# Altium footprint library 10103594_micro_USB.PcbLib: 1 footprints
Each footprint in its own frame and in the unit in brackets; x right, y up, seen from the top. Pads: shape width x height; smd on the part's side, far side on the other; paste and mask are expansions set on the pad; w line width, h text height; cw(c..) or ccw(c..) is an arc to the next point about the centre after c.
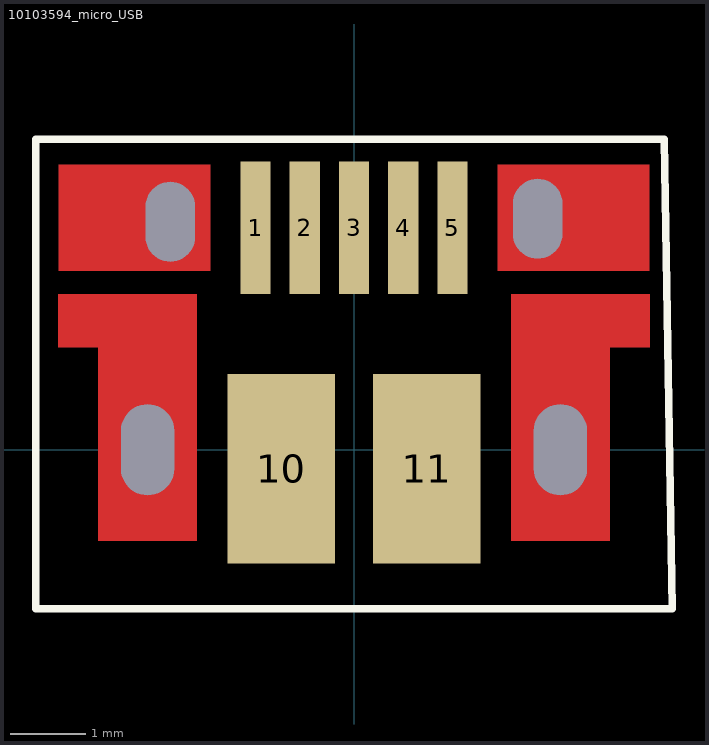
[diagram p0: the footprint, top view; thin cyan lines are the x and y axes]

## 10103594_micro_USB [mm]
height 2.99
pads (11):
  rect 0.4x1.75 smd: 1(-1.3,2.93) 2(-0.65,2.93) 3(0,2.93) 4(0.65,2.93) 5(1.3,2.93)
  round 0 hole 1.05 slot 0.65 at 0 deg: 6(-2.425,3.01) 7(2.425,3.05)
  round 0 hole 1.2 slot 0.7 at 0 deg: 8(-2.725,0) 9(2.725,0)
  rect 1.425x2.5 smd: 10(-0.96,-0.25) 11(0.96,-0.25)
Top Layer:
  region: -3.9,3.76 -1.9,3.76 -1.9,2.36 -3.9,2.36
  region: 3.9,2.36 1.9,2.36 1.9,3.76 3.9,3.76
  region: 2.075,-1.2 2.075,2.05 3.905,2.05 3.905,1.35 3.375,1.35 3.375,-1.2
  region: -2.075,-1.2 -2.075,2.05 -3.905,2.05 -3.905,1.35 -3.375,1.35 -3.375,-1.2
Top Overlay:
  lines w0.1: -4.2,-2.1 -4.2,4.1 4.097,4.1 4.2,-2.1 -4.2,-2.1
3D body "User Library-10103594.STEP": height 2.9, standoff -0.7, extent -4.03,-2.809 4.01,3.224